# EAGLE library part TEXAS_INSTRUMENTS-GATE_DRIVER-TPIC44H01DA (library Module_ICs)
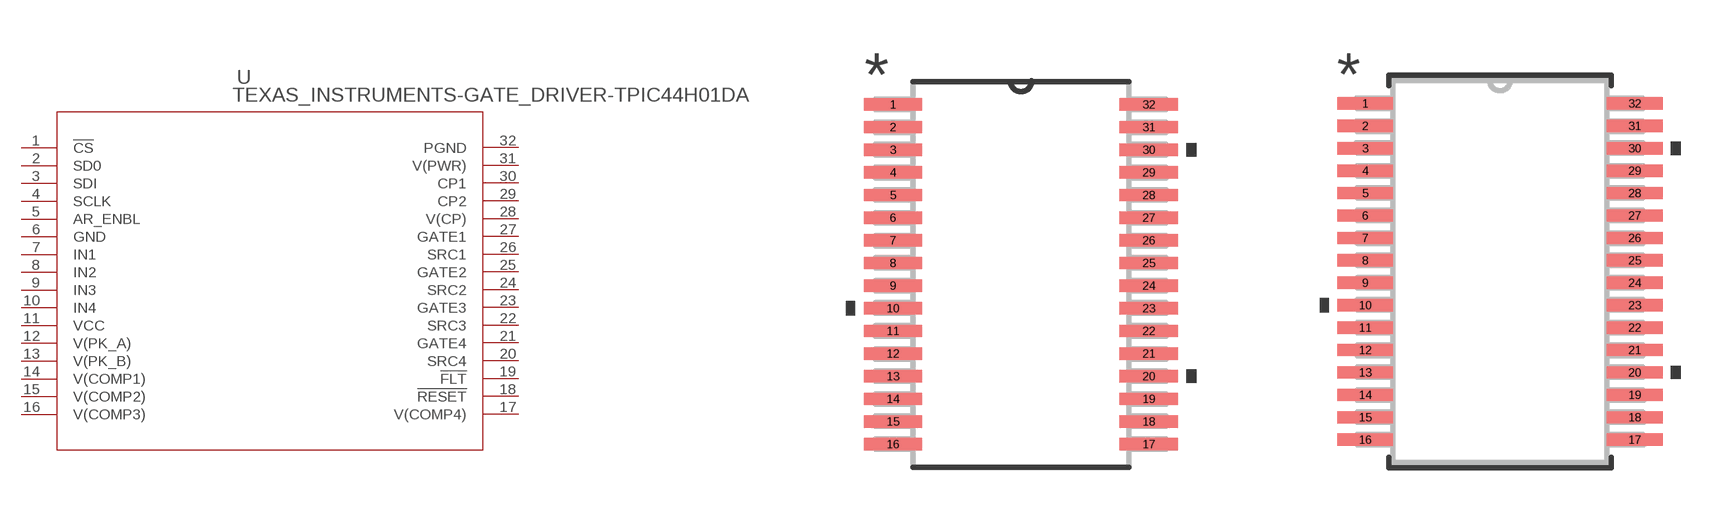
[diagram p57: symbol with the pads of DA32; footprints DA32, DA32-M]

Designator prefix U

## TEXAS_INSTRUMENTS-GATE_DRIVER-TPIC44H01DA (DATASHEET_URL: http://www.ti.com/lit/gpn/TPIC44H01; DESCRIPTION: 4-Channel Serial/Parallel High-Side Pre-FET Driver; FAMILY_NAME: POWERPLUS CONTROL; GENERIC_PART_NUMBER: TPIC44H01; INDUSTRY_STD_PKG_TYPE: TSSOP; MANUFACTURER: Texas Instruments; MANUFACTURER_PART_NUMBER: TPIC44H01DA; PACKAGE_DESIGNATOR: DA; PIN_COUNT: 32; VENDOR: Texas Instruments)  [DA32]
1  !CS  in
2  SD0  out
3  SDI  in
4  SCLK  in
5  AR_ENBL  in
6  GND  in
7  IN1  in
8  IN2  in
9  IN3  in
10  IN4  in
11  VCC  in
12  V(PK_A)  in
13  V(PK_B)  in
14  V(COMP1)  in
15  V(COMP2)  in
16  V(COMP3)  in
17  V(COMP4)  in
18  !RESET  in
19  !FLT  out
20  SRC4  in
21  GATE4  out
22  SRC3  in
23  GATE3  out
24  SRC2  in
25  GATE2  out
26  SRC1  in
27  GATE1  out
28  V(CP)  out
29  CP2  out
30  CP1  out
31  V(PWR)  in
32  PGND  in

## TEXAS_INSTRUMENTS-GATE_DRIVER-TPIC44H01DADA32-M (DATASHEET_URL: http://www.ti.com/lit/gpn/TPIC44H01; DESCRIPTION: 4-Channel Serial/Parallel High-Side Pre-FET Driver; FAMILY_NAME: POWERPLUS CONTROL; GENERIC_PART_NUMBER: TPIC44H01; INDUSTRY_STD_PKG_TYPE: TSSOP; MANUFACTURER: Texas Instruments; MANUFACTURER_PART_NUMBER: TPIC44H01DA; PACKAGE_DESIGNATOR: DA; PIN_COUNT: 32; VENDOR: Texas Instruments)  [DA32-M]
Pads as for DA32

## TEXAS_INSTRUMENTS-GATE_DRIVER-TPIC44H01DADA32-L (DATASHEET_URL: http://www.ti.com/lit/gpn/TPIC44H01; DESCRIPTION: 4-Channel Serial/Parallel High-Side Pre-FET Driver; FAMILY_NAME: POWERPLUS CONTROL; GENERIC_PART_NUMBER: TPIC44H01; INDUSTRY_STD_PKG_TYPE: TSSOP; MANUFACTURER: Texas Instruments; MANUFACTURER_PART_NUMBER: TPIC44H01DA; PACKAGE_DESIGNATOR: DA; PIN_COUNT: 32; VENDOR: Texas Instruments)  [DA32-L]
Pads as for DA32

## Footprint DA32 (pad centres in mm)
smd 1.676 x 0.356: 1 -3.67,4.875; 2 -3.67,4.225; 3 -3.67,3.575; 4 -3.67,2.925; 5 -3.67,2.275; 6 -3.67,1.625; 7 -3.67,0.975; 8 -3.67,0.325; 9 -3.67,-0.325; 10 -3.67,-0.975; 11 -3.67,-1.625; 12 -3.67,-2.275; 13 -3.67,-2.925; 14 -3.67,-3.575; 15 -3.67,-4.225; 16 -3.67,-4.875; 17 3.67,-4.875; 18 3.67,-4.225; 19 3.67,-3.575; 20 3.67,-2.925; 21 3.67,-2.275; 22 3.67,-1.625; 23 3.67,-0.975; 24 3.67,-0.325; 25 3.67,0.325; 26 3.67,0.975; 27 3.67,1.625; 28 3.67,2.275; 29 3.67,2.925; 30 3.67,3.575; 31 3.67,4.225; 32 3.67,4.875

## Footprint DA32-M (pad centres in mm)
smd 1.613 x 0.356: 1 -3.905,4.875; 2 -3.905,4.225; 3 -3.905,3.575; 4 -3.905,2.925; 5 -3.905,2.275; 6 -3.905,1.625; 7 -3.905,0.975; 8 -3.905,0.325; 9 -3.905,-0.325; 10 -3.905,-0.975; 11 -3.905,-1.625; 12 -3.905,-2.275; 13 -3.905,-2.925; 14 -3.905,-3.575; 15 -3.905,-4.225; 16 -3.905,-4.875; 17 3.905,-4.875; 18 3.905,-4.225; 19 3.905,-3.575; 20 3.905,-2.925; 21 3.905,-2.275; 22 3.905,-1.625; 23 3.905,-0.975; 24 3.905,-0.325; 25 3.905,0.325; 26 3.905,0.975; 27 3.905,1.625; 28 3.905,2.275; 29 3.905,2.925; 30 3.905,3.575; 31 3.905,4.225; 32 3.905,4.875

## Footprint DA32-L (pad centres in mm)
smd 1.168 x 0.305: 1 -3.721,4.875; 2 -3.721,4.225; 3 -3.721,3.575; 4 -3.721,2.925; 5 -3.721,2.275; 6 -3.721,1.625; 7 -3.721,0.975; 8 -3.721,0.325; 9 -3.721,-0.325; 10 -3.721,-0.975; 11 -3.721,-1.625; 12 -3.721,-2.275; 13 -3.721,-2.925; 14 -3.721,-3.575; 15 -3.721,-4.225; 16 -3.721,-4.875; 17 3.721,-4.875; 18 3.721,-4.225; 19 3.721,-3.575; 20 3.721,-2.925; 21 3.721,-2.275; 22 3.721,-1.625; 23 3.721,-0.975; 24 3.721,-0.325; 25 3.721,0.325; 26 3.721,0.975; 27 3.721,1.625; 28 3.721,2.275; 29 3.721,2.925; 30 3.721,3.575; 31 3.721,4.225; 32 3.721,4.875